# Altium footprint library MY-I.MX6-PCB_Library.PcbLib: 53 footprints (part 1 of 4)
Each footprint in its own frame and in the unit in brackets; x right, y up, seen from the top. Pads: shape width x height; smd on the part's side, far side on the other; paste and mask are expansions set on the pad; w line width, h text height; cw(c..) or ccw(c..) is an arc to the next point about the centre after c.
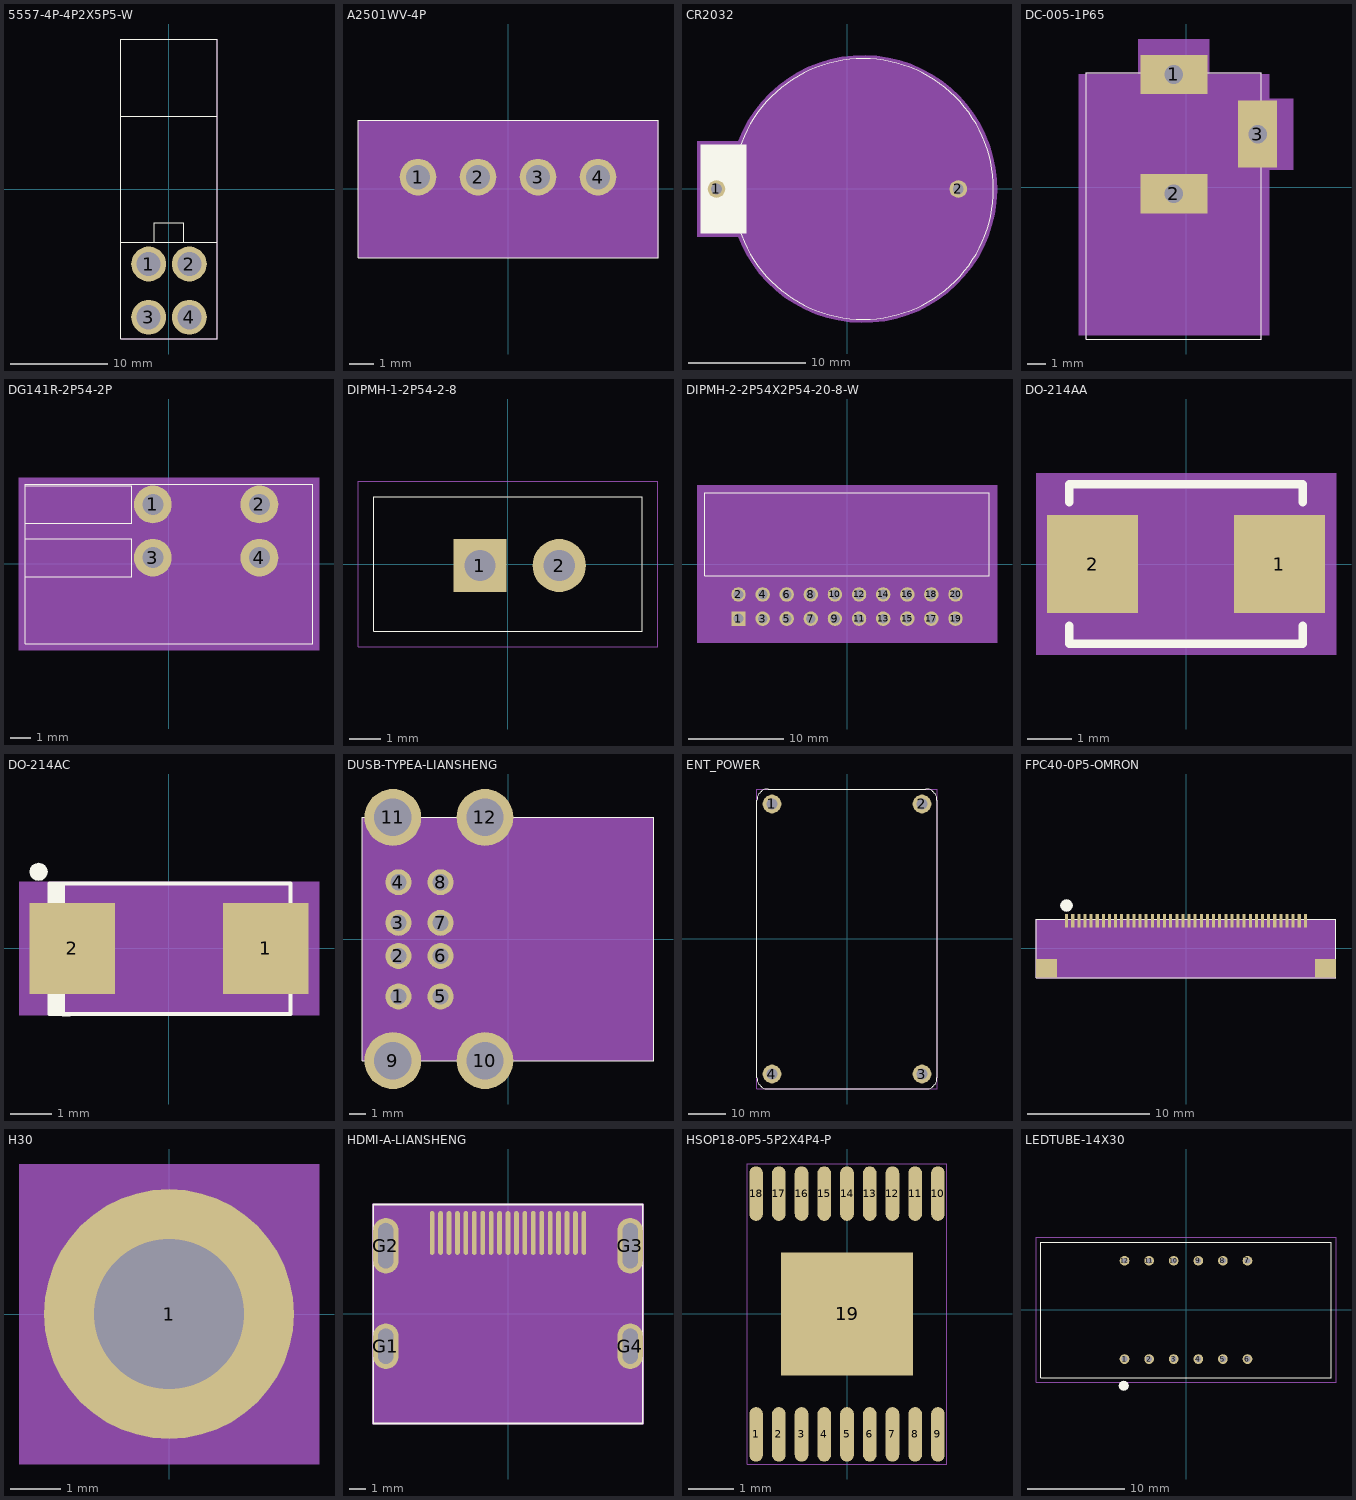
[diagram p0: the footprints below, top view; thin cyan lines are the x and y axes]

## 5557-4P-4P2X5P5-W [mm] "5557-4P-4P2X5P5-W"
pads (4):
  round 3.609 hole 2.489: 1(-2.1,-7.75) 2(2.1,-7.75) 3(-2.1,-13.25) 4(2.1,-13.25)
Top Overlay:
  lines w0.025: -5,7.5 5,7.5 ; -5,-5.5 -5,-15.5 5,-15.5 5,-5.5 ; -5,-5.5 5,-5.5 ; -5,-5.5 -5,15.5 5,15.5 5,-5.5 ; -1.5,-5.5 1.5,-5.5 1.5,-3.5 -1.5,-3.5 -1.5,-5.5
Top 3D Body:
  lines w0.025: -5,-15.5 -5,15.5 5,15.5 5,-15.5 -5,-15.5
Mechanical 16:
  text "1" at -3.878,-7.75 h0.64
  text "2" at 0.322,-7.75 h0.64
  text "4" at 0.322,-13.25 h0.64
  text "3" at -3.878,-13.25 h0.64
Top Assembly:
  text ".Designator" at -0.586,-12.283 h0.64
  text "5557-4p-4.2x5.5" at -0.577,-12.883 h0.64

## A2501WV-4P [mil] "A2501WV-4P"
pads (4):
  round 60 / inner round 55 / far side round 60 hole 40: 1(-147.64,19.49) 2(-49.21,19.49) 3(49.21,19.49) 4(147.64,19.49)
Top Overlay:
  lines w1: -246.06,-113.19 -246.06,113.19 246.06,113.19 246.06,-113.19 -246.06,-113.19
Top 3D Body:
  region: -246.06,-113.19 246.06,-113.19 246.06,113.19 -246.06,113.19
Mechanical 16:
  text "2" at -79.21,19.49 h25
  text "3" at 19.21,19.49 h25
  text "1" at -177.64,19.49 h25
  text "4" at 117.64,19.49 h25
Top Assembly:
  text "A2501WV-4P" at -28.58,-91.69 h25
  text ".Designator" at 39.06,-31.61 h25
3D body: height 150, standoff 0, extent -246.06,-113.19 246.06,113.19

## CR2032 [mm] "CR2032"
pads (2):
  round 1.5 hole 0.9: 1(-11.12,0) 2(9.48,0)
Top Overlay:
  circle w0.025: c1.38,0 r11.1
  dashed: -8.58,-3.75 -8.58,3.75 -12.48,3.75 -12.48,-3.75
  text ".Designator" at -15.634,-1.054 h0.7
Top 3D Body:
  region: -9.276,4.05 -8.883,4.963 -8.411,5.839 -7.865,6.67 -7.248,7.45 -6.566,8.174 -5.824,8.836 -5.026,9.43 -4.18,9.952 -3.291,10.399 -2.367,10.767 -1.415,11.052 -0.441,11.254 0.547,11.37 1.541,11.399 2.534,11.341 3.518,11.198 4.486,10.969 5.43,10.656 6.343,10.263 7.219,9.791 8.05,9.245 8.83,8.628 9.554,7.946 10.216,7.204 10.81,6.406 11.332,5.56 11.779,4.671 12.147,3.747 12.432,2.795 12.634,1.821 12.75,0.833 12.779,-0.161 12.721,-1.154 12.578,-2.138 12.349,-3.106 12.036,-4.05 11.643,-4.963 11.171,-5.839 10.625,-6.67 10.008,-7.45 9.326,-8.174 8.584,-8.836 7.786,-9.43 6.94,-9.952 6.051,-10.399 5.127,-10.767 4.175,-11.052 3.201,-11.254 2.213,-11.37 1.219,-11.399 0.226,-11.341 -0.758,-11.198 -1.726,-10.969 -2.67,-10.656 -3.583,-10.263 -4.459,-9.791 -5.29,-9.245 -6.07,-8.628 -6.794,-7.946 -7.456,-7.204 -8.05,-6.406 -8.572,-5.56 -9.019,-4.671 -9.276,-4.05 -12.78,-4.05 -12.78,4.05
Mechanical 16:
  text "2" at 7.847,0 h0.45
  text "1" at -12.753,0 h0.45
Top Assembly:
  text "CR2032" at 0.49,-0.151 h0.45
3D body: height 3.81, standoff 0, extent -12.78,-11.399 12.779,11.399

## DC-005-1P65 [mm] "DC-005-1P65"
pads (3):
  rect 3.6x2.1 hole 1: 1(-0.648,6.045) 2(-0.648,-0.356)
  rect 2.1x3.6 hole 1: 3(3.848,2.845)
Top Overlay:
  lines w0.025: -5.347,-8.153 4.051,-8.153 4.051,6.147 -5.347,6.147 -5.347,-8.153
  text ".Designator" at 4.356,7.835 h0.7
Top 3D Body:
  region: -5.753,-7.95 -5.753,6.045 -2.553,6.045 -2.553,7.95 1.257,7.95 1.257,6.045 4.458,6.045 4.458,4.75 5.753,4.75 5.753,0.94 4.458,0.94 4.458,-7.95
Mechanical 16:
  text "1" at -0.394,6.045 h0.64
  text "2" at -0.394,-0.356 h0.64
  text "3" at 4.102,2.845 h0.64
Top Assembly:
  lines w0.025: -5.347,-8.153 4.051,-8.153 4.051,6.147 -5.347,6.147 -5.347,-8.153
  text "POWER_DC5V" at -1.41,-0.567 h0.64
3D body: height 3.81, standoff 0, extent -5.753,-7.95 5.753,7.95

## DG141R-2P54-2P [mm] "DG141R-2P54-2P"
pads (4):
  round 1.8 hole 1: 1(-0.77,2.84) 2(4.31,2.84) 3(-0.77,0.3) 4(4.31,0.3)
Top Overlay:
  lines w0.025: -6.85,-3.8 -6.85,3.8 6.85,3.8 6.85,-3.8 -6.85,-3.8 ; -6.85,-0.6 -6.85,1.2 -1.77,1.2 -1.77,-0.6 -6.85,-0.6 ; -6.85,1.94 -6.85,3.74 -1.77,3.74 -1.77,1.94 -6.85,1.94
Top 3D Body:
  region: -7.15,-4.1 7.15,-4.1 7.15,4.1 -7.15,4.1
Mechanical 16:
  text "4" at 4.31,-0.208 h0.64
  text "3" at -0.77,-0.208 h0.64
  text "2" at 4.31,2.332 h0.64
  text "1" at -0.77,2.332 h0.64
Top Assembly:
  text "DG141R-2.54-2p" at 1.77,-2.24 h0.64
  text ".Designator" at 1.77,0.3 h0.64
3D body: height 3.81, standoff 0, extent -7.15,-4.1 7.15,4.1

## DIPMH-1-2P54-2-8 [mm] "DIPMH-1-2P54-2-8"
pads (2):
  rect 1.7x1.7 hole 1: 1(-0.9,-0.05)
  round 1.699 hole 1.001: 2(1.64,-0.05)
Top Overlay:
  lines w0.025: -4.3,-2.15 -4.3,2.15 4.3,2.15 4.3,-2.15 -4.3,-2.15
  text ".Designator" at 2.495,2.381 h0.7
Top 3D Body:
  lines w0.025: -4.8,-2.65 4.8,-2.65 4.8,2.65 -4.8,2.65 -4.8,-2.65
Mechanical 16:
  text "2" at -0.138,-0.05 h0.64
  text "1" at -2.678,-0.05 h0.64
Top Assembly:
  text "LED_GREEN" at -0.392,-0.262 h0.64

## DIPMH-2-2P54X2P54-20-8-W [mil] "DIPMH-2-2P54X2P54-20-8-W"
pads (20):
  rect 60x60 / inner round 55 / far side rect 60x60 hole 42: 1(-450,-226.38)
  round 60 / inner round 55 / far side round 60 hole 40: 2(-450,-126.38) 3(-350,-226.38) 4(-350,-126.38) 5(-250,-226.38) 6(-250,-126.38) 7(-150,-226.38) 8(-150,-126.38) 9(-50,-226.38) 10(-50,-126.38) 11(50,-226.38) 12(50,-126.38) 13(150,-226.38) 14(150,-126.38) 15(250,-226.38) 16(250,-126.38) 17(350,-226.38) 18(350,-126.38) 19(450,-226.38) 20(450,-126.38)
Top Overlay:
  lines w1: -590.55,-49.61 590.55,-49.61 590.55,294.88 -590.55,294.88 -590.55,-49.61
  text ".Designator" at -547.76,-242.27 h27.56
Top 3D Body:
  region: -622.05,-326.38 622.05,-326.38 622.05,326.38 -622.05,326.38
Mechanical 16:
  text "2" at -430,-126.38 h25
  text "17" at 390,-226.38 h25
  text "19" at 490,-226.38 h25
  text "11" at 90,-226.38 h25
  text "15" at 290,-226.38 h25
  text "18" at 390,-126.38 h25
  text "20" at 490,-126.38 h25
  text "16" at 290,-126.38 h25
  text "12" at 90,-126.38 h25
  text "14" at 190,-126.38 h25
  text "8" at -130,-126.38 h25
  text "10" at -10,-126.38 h25
  text "6" at -230,-126.38 h25
  text "4" at -330,-126.38 h25
  text "1" at -430,-226.38 h25
  text "9" at -30,-226.38 h25
  text "5" at -230,-226.38 h25
  text "7" at -130,-226.38 h25
  text "13" at 190,-226.38 h25
  text "3" at -330,-226.38 h25
Top Assembly:
  text "JTAG_W_20pin" at 86.58,-5.96 h17.87
3D body: height 150, standoff 0, extent -622.05,-326.38 622.05,326.38

## DO-214AA [mm] "DO-214AA"
pads (2):
  rect 2.06x2.204 smd: 1(2.11,0) 2(-2.11,0)
Top Overlay:
  lines w0.2: -2.64,-1.402 -2.64,-1.802 2.64,-1.802 2.64,-1.402 ; -2.64,1.402 -2.64,1.802 2.64,1.802 2.64,1.402
  text ".Designator" at -0.762,2.273 h0.7
Top Courtyard:
  dashed: -2.64,-1.865 2.64,-1.865 2.64,1.865 -2.64,1.865
Top 3D Body:
  region: -3.39,-2.052 3.39,-2.052 3.39,2.052 -3.39,2.052
Mechanical 16:
  text "2" at -2.5,-2.882 h0.45
  text "1" at 2.3,-2.882 h0.45
Top Assembly:
  lines w0.2: -2.54,-1.802 -2.54,1.802 ; -2.44,-1.802 -2.44,1.802 ; -2.34,-1.802 -2.34,1.802 ; -2.24,-1.802 -2.24,1.802 ; -2.14,-1.802 -2.14,1.802 ; -2.64,-1.802 2.64,-1.802 2.64,1.802 -2.64,1.802 -2.64,-1.802
  text "RichardLC" at 0,-1.834 h0.45
  text "SS32" at -0.761,-0.212 h0.64
3D body: height 3.81, standoff 0, extent -3.39,-2.052 3.39,2.052

## DO-214AC [mm] "DO-214AC"
pads (2):
  rect 2.05x2.176 smd: 1(2.32,0) 2(-2.32,0)
Top Overlay:
  dashed: -3.345,1.84 -3.329,1.757 -3.282,1.687 -3.212,1.641 -3.129,1.624 -3.047,1.641 -3.023,1.656 -2.977,1.687 -2.93,1.757 -2.914,1.84 -2.93,1.923 -2.977,1.993 -3.023,2.024 -3.047,2.04 -3.129,2.056 -3.212,2.04 -3.282,1.993 -3.329,1.923
  lines w0.1: -2.722,1.543 -2.625,1.543 ; -2.541,-1.547 -2.625,-1.547 -2.625,1.543 ; -2.391,-1.576 -2.551,-1.576 -2.551,1.543 -2.625,1.543 ; -2.786,-1.576 -2.786,-1.56 -2.625,-1.56 -2.625,1.543 ; -2.786,-1.576 -2.696,-1.576 -2.696,1.548 -2.867,1.548 -2.867,1.552 -2.786,1.552 -2.786,-1.576 ; -2.786,-1.576 -2.87,-1.576 -2.87,1.56 2.919,1.56 2.919,-1.576 -2.786,-1.576
  text ".Designator" at 0.297,-2.026 h0.7
Top 3D Body:
  region: 3.6,-1.6 3.6,1.6 -3.6,1.6 -3.6,-1.6
Mechanical 16:
  text "1" at 3.103,-0.322 h0.64
  text "2" at -1.528,-0.252 h0.64
Top Assembly:
  text "RB056L-40TE25" at -0.669,-0.225 h0.64
3D body: height 3.81, standoff 0, extent -3.6,-1.6 3.6,1.6

## DUSB-TYPEA-LIANSHENG [mm] "DUSB-TYPEA-LIANSHENG"
pads (12):
  round 1.6 hole 1: 1(-6.757,-3.544) 2(-6.757,-1.044) 3(-6.757,1) 4(-6.757,3.5) 5(-4.157,-3.544) 6(-4.157,-1.044) 7(-4.157,1) 8(-4.157,3.5)
  round 3.5 hole 2.3: 9(-7.1,-7.5) 10(-1.42,-7.5) 11(-7.1,7.5) 12(-1.42,7.5)
Top Overlay:
  lines w0.025: -9,-7.5 -9,7.5 9,7.5 9,-7.5 -9,-7.5
  text ".Designator" at -9.934,-10.366 h0.7
Top 3D Body:
  region: -9,-7.5 9,-7.5 9,7.5 -9,7.5
Mechanical 16:
  text "6" at -5.427,-1.552 h0.64
  text "2" at -8.027,-1.552 h0.64
  text "3" at -8.027,0.492 h0.64
  text "7" at -5.427,0.492 h0.64
  text "10" at -2.69,-8.516 h0.64
  text "9" at -8.37,-8.008 h0.64
  text "12" at -2.69,6.484 h0.64
  text "11" at -8.37,6.484 h0.64
  text "1" at -8.027,-4.052 h0.64
  text "5" at -5.427,-4.052 h0.64
  text "4" at -8.027,2.992 h0.64
  text "8" at -5.427,2.992 h0.64
Top Assembly:
  text "USB_A_Double" at -0.712,-0.212 h0.64
3D body: height 3.81, standoff 0, extent -9,-7.5 9,7.5

## ENT_POWER [mm] "ENT_POWER"
pads (4):
  round 5 hole 3: 1(-20,36) 2(20,36) 3(20,-36) 4(-20,-36)
Top Overlay:
  lines w0.025: -24,-37 ccw(c-21,-37) -21,-40 21,-40 ccw(c21,-37) 24,-37 24,37 ccw(c21,37) 21,40 -21,40 ccw(c-21,37) -24,37 -24,-37
  text ".Designator" at -20.528,35.651 h0.7
Top 3D Body:
  lines w0.025: -24,-40 24,-40 24,40 -24,40 -24,-40
Mechanical 16:
  text "1" at -21.778,36 h0.64
  text "2" at 18.222,36 h0.64
  text "3" at 18.222,-36 h0.64
  text "4" at -21.778,-36 h0.64
Top Assembly:
  text "ENT_POWER" at -3.998,3.276 h0.64

## FPC40-0P5-OMRON [mm] "FPC40-0P5-OMRON"
pads (42):
  rect 0.25x1.1 smd: 1(-9.75,2.263) 2(-9.25,2.263) 3(-8.75,2.263) 4(-8.25,2.263) 5(-7.75,2.263) 6(-7.25,2.263) 7(-6.75,2.263) 8(-6.25,2.263) 9(-5.75,2.263) 10(-5.25,2.263) 11(-4.75,2.263) 12(-4.25,2.263) 13(-3.75,2.263) 14(-3.25,2.263) 15(-2.75,2.263) 16(-2.25,2.263) 17(-1.75,2.263) 18(-1.25,2.263) 19(-0.75,2.263) 20(-0.25,2.263) 21(0.25,2.263) 22(0.75,2.263) 23(1.25,2.263) 24(1.75,2.263) 25(2.25,2.263) 26(2.75,2.263) 27(3.25,2.263) 28(3.75,2.263) 29(4.25,2.263) 30(4.75,2.263) 31(5.25,2.263) 32(5.75,2.263) 33(6.25,2.263) 34(6.75,2.263) 35(7.25,2.263) 36(7.75,2.263) 37(8.25,2.263) 38(8.75,2.263) 39(9.25,2.263) 40(9.75,2.263)
  rect 1.7x1.5 smd: ""(-11.4,-1.637) ""(11.4,-1.637)
Top Overlay:
  dashed: -10.27,3.502 -10.231,3.307 -10.12,3.142 -9.955,3.032 -9.76,2.993 -9.565,3.032 -9.509,3.069 -9.4,3.142 -9.289,3.307 -9.25,3.502 -9.289,3.698 -9.4,3.863 -9.509,3.936 -9.565,3.973 -9.76,4.012 -9.955,3.973 -10.12,3.863 -10.231,3.698
  lines w0.025: -12.25,-2.388 -12.25,2.388 12.25,2.388 12.25,-2.388 -12.25,-2.388
Top 3D Body:
  region: -12.25,-2.388 12.25,-2.388 12.25,2.388 -12.25,2.388
Mechanical 16:
  text "31" at 5.758,2.263 h0.64
  text "32" at 6.258,2.263 h0.64
  text "33" at 6.758,2.263 h0.64
  text "34" at 7.258,2.263 h0.64
  text "35" at 7.758,2.263 h0.64
  text "36" at 8.258,2.263 h0.64
  text "37" at 8.758,2.263 h0.64
  text "38" at 9.258,2.263 h0.64
  text "39" at 9.758,2.263 h0.64
  text "40" at 10.258,2.263 h0.64
  text "19" at -0.242,2.263 h0.64
  text "28" at 4.258,2.263 h0.64
  text "30" at 5.258,2.263 h0.64
  text "26" at 3.258,2.263 h0.64
  text "27" at 3.758,2.263 h0.64
  text "29" at 4.758,2.263 h0.64
  text "16" at -1.742,2.263 h0.64
  text "17" at -1.242,2.263 h0.64
  text "21" at 0.758,2.263 h0.64
  text "22" at 1.258,2.263 h0.64
  text "8" at -5.996,2.263 h0.64
  text "7" at -6.496,2.263 h0.64
  text "4" at -7.996,2.263 h0.64
  text "14" at -2.742,2.263 h0.64
  text "10" at -4.742,2.263 h0.64
  text "2" at -8.996,2.263 h0.64
  text "13" at -3.242,2.263 h0.64
  text "1" at -9.496,2.263 h0.64
  text "5" at -7.496,2.263 h0.64
  text "11" at -4.242,2.263 h0.64
  text "25" at 2.758,2.263 h0.64
  text "20" at 0.258,2.263 h0.64
  text "24" at 2.258,2.263 h0.64
  text "23" at 1.758,2.263 h0.64
  text "18" at -0.742,2.263 h0.64
  text "12" at -3.742,2.263 h0.64
  text "15" at -2.242,2.263 h0.64
  text "9" at -5.496,2.263 h0.64
  text "6" at -6.996,2.263 h0.64
  text "3" at -8.496,2.263 h0.64
Top Assembly:
  lines w0.025: -12.25,-2.388 12.25,-2.388 12.25,2.388 -12.25,2.388 -12.25,-2.388
  text "xf2m-4015-1a" at -2.54,-0.278 h0.64
  text ".Designator" at -2.54,-0.278 h0.64
3D body: height 3.81, standoff 0, extent -12.25,-2.388 12.25,2.388

## H30 [mm] "H30"
pads (1):
  round 5 hole 3: 1(0,0)
Top Overlay:
  text ".Designator" at 0.56,-0.217 h0.7
Top 3D Body:
  region: -3,-3 3,-3 3,3 -3,3
Mechanical 16:
  text "1" at 0.508,0 h0.64
Top Assembly:
  text "BH" at 0.508,-0.217 h0.64
3D body: height 3.81, standoff 0, extent -3,-3 3,3

## HDMI-A-LIANSHENG [mm] "HDMI-A-LIANSHENG"
pads (23):
  oval 0.28x2.6 smd: 1(4.5,4.81) 2(4,4.81) 3(3.5,4.81) 4(3,4.81) 5(2.5,4.81) 6(2,4.81) 7(1.5,4.81) 8(1,4.81) 9(0.5,4.81) 10(0,4.81) 11(-0.5,4.81) 12(-1,4.81) 13(-1.5,4.81) 14(-2,4.81) 15(-2.5,4.81) 16(-3,4.81) 17(-3.5,4.81) 18(-4,4.81) 19(-4.5,4.81)
  oval 1.5x2.7 hole 2.1 slot 0.9 at 0 deg: G1(-7.25,-1.91) G4(7.25,-1.91)
  oval 1.5x3.3 hole 2.7 slot 0.9 at 0 deg: G2(-7.25,4.05) G3(7.25,4.05)
Top Overlay:
  lines w0.1: -8,-6.5 -8,6.5 8,6.5 8,-6.5 -8,-6.5
  text ".Designator" at 8.036,8.218 h0.7
Top 3D Body:
  region: -8.05,-6.55 8.05,-6.55 8.05,6.55 -8.05,6.55
Mechanical 16:
  text "11" at 0.008,4.81 h0.64
  text "2" at 4.254,4.81 h0.64
  text "5" at 2.754,4.81 h0.64
  text "8" at 1.254,4.81 h0.64
  text "9" at 0.754,4.81 h0.64
  text "4" at 3.254,4.81 h0.64
  text "10" at 0.508,4.81 h0.64
  text "3" at 3.754,4.81 h0.64
  text "12" at -0.492,4.81 h0.64
  text "6" at 2.254,4.81 h0.64
  text "1" at 4.754,4.81 h0.64
  text "7" at 1.754,4.81 h0.64
  text "16" at -2.492,4.81 h0.64
  text "19" at -3.992,4.81 h0.64
  text "15" at -1.992,4.81 h0.64
  text "18" at -3.492,4.81 h0.64
  text "G4" at 7.758,-1.91 h0.64
  text "G3" at 7.758,4.05 h0.64
  text "G2" at -6.742,4.05 h0.64
  text "G1" at -6.742,-1.91 h0.64
  text "17" at -2.992,4.81 h0.64
  text "13" at -0.992,4.81 h0.64
  text "14" at -1.492,4.81 h0.64
Top Assembly:
  text "10029449-001RLF" at -0.762,-0.194 h0.64
3D body: height 3.81, standoff 0, extent -8.05,-6.55 8.05,6.55

## HSOP18-0P5-5P2X4P4-P [mm] "HSOP18-0P5-5P2X4P4-P"
pads (19):
  oval 0.3x1.2 smd: 1(-2,-2.65) 2(-1.5,-2.65) 3(-1,-2.65) 4(-0.5,-2.65) 5(0,-2.65) 6(0.5,-2.65) 7(1,-2.65) 8(1.5,-2.65) 9(2,-2.65) 10(2,2.65) 11(1.5,2.65) 12(1,2.65) 13(0.5,2.65) 14(0,2.65) 15(-0.5,2.65) 16(-1,2.65) 17(-1.5,2.65) 18(-2,2.65)
  rect 2.9x2.7 smd: 19(0,0)
Top Overlay:
  text ".Designator" at -4.485,-1.658 h0.7
Top 3D Body:
  lines w0.025: -2.2,-3.3 -2.2,3.3 2.2,3.3 2.2,-3.3 -2.2,-3.3
Mechanical 16:
  text "3" at -1.305,-2.97 h0.79
  text "19" at -0.63,0 h0.79
  text "4" at -0.805,-2.97 h0.79
  text "5" at -0.305,-2.97 h0.79
  text "12" at 0.4,2.29 h0.79
  text "11" at 0.9,2.29 h0.79
  text "16" at -1.6,2.29 h0.79
  text "9" at 1.695,-2.97 h0.79
  text "18" at -2.38,2.277 h0.79
  text "17" at -2.1,2.29 h0.79
  text "8" at 1.195,-2.97 h0.79
  text "2" at -1.805,-2.97 h0.79
  text "1" at -2.305,-2.97 h0.79
  text "10" at 0.96,2.297 h0.79
  text "14" at -0.6,2.29 h0.79
  text "15" at -1.1,2.29 h0.79
  text "7" at 0.695,-2.97 h0.79
  text "6" at 0.195,-2.97 h0.79
  text "13" at -0.1,2.29 h0.79
Top Assembly:
  text "R1270S001A-E2-KE" at -0.87,-0.233 h0.7

## LEDTUBE-14X30 [mm] "LEDTUBE-14X30"
pads (12):
  round 1 hole 0.6: 1(-6.35,-5.08) 2(-3.81,-5.08) 3(-1.27,-5.08) 4(1.27,-5.08) 5(3.81,-5.08) 6(6.35,-5.08) 7(6.35,5.08) 8(3.81,5.08) 9(1.27,5.08) 10(-1.27,5.08) 11(-3.81,5.08) 12(-6.35,5.08)
Top Overlay:
  dashed: -5.916,-7.836 -5.954,-7.641 -6.065,-7.475 -6.23,-7.365 -6.425,-7.326 -6.62,-7.365 -6.676,-7.402 -6.786,-7.475 -6.896,-7.641 -6.935,-7.836 -6.896,-8.031 -6.786,-8.196 -6.676,-8.27 -6.62,-8.307 -6.425,-8.345 -6.23,-8.307 -6.065,-8.196 -5.954,-8.031
  lines w0.025: -15,-7 15,-7 15,7 -15,7 -15,-7
  text ".Designator" at -17.706,-6.279 h0.7
Top 3D Body:
  lines w0.025: -15.5,-7.5 -15.5,7.5 15.5,7.5 15.5,-7.5 -15.5,-7.5
Mechanical 16:
  text "12" at -7.366,5.08 h0.64
  text "9" at 0.762,5.08 h0.64
  text "8" at 3.302,5.08 h0.64
  text "6" at 5.842,-5.08 h0.64
  text "11" at -4.826,5.08 h0.64
  text "5" at 3.302,-5.08 h0.64
  text "1" at -6.858,-5.08 h0.64
  text "3" at -1.778,-5.08 h0.64
  text "7" at 5.842,5.08 h0.64
  text "2" at -4.318,-5.08 h0.64
  text "10" at -2.286,5.08 h0.64
  text "4" at 0.762,-5.08 h0.64
Top Assembly:
  text "LEDTube-RED" at -1.27,0 h0.64